# EAGLE library part TPIC6B595N (library ICs)
POWER LOGIC 8-BIT SHIFT REGISTER
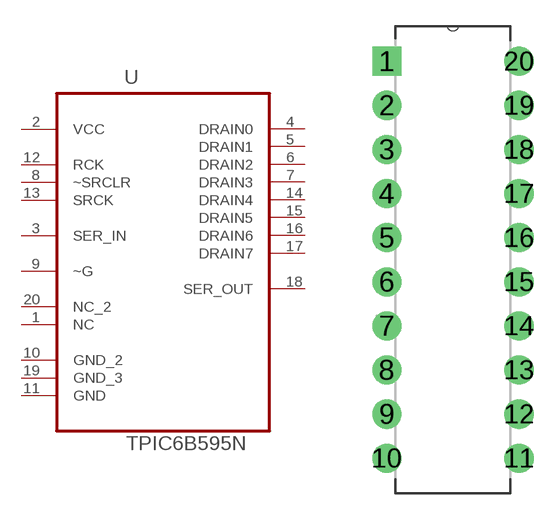
[diagram p25: symbol with the pads of DIP254P762X508-20; footprint DIP254P762X508-20]

Designator prefix U

## TPIC6B595N (AVAILABILITY: Unavailable; DESCRIPTION: Shift Shift Register 1 Element 8 Bit 20-PDIP; MF: Texas Instruments; MP: TPIC6B595N; PACKAGE: DIP-20 Texas Instruments; PRICE: None)  [DIP254P762X508-20]
1  NC  nc
2  VCC  pwr
3  SER_IN  in
4  DRAIN0  out
5  DRAIN1  out
6  DRAIN2  out
7  DRAIN3  out
8  ~SRCLR  in
9  ~G  in
10  GND_2  pas
11  GND  pas
12  RCK  in
13  SRCK  in
14  DRAIN4  out
15  DRAIN5  out
16  DRAIN6  out
17  DRAIN7  out
18  SER_OUT  out
19  GND_3  pas
20  NC_2  nc

## Footprint DIP254P762X508-20 (pad centres in mm)
drill 1.118 square: 1 -7.62,22.86
drill 1.118: 2 -7.62,20.32; 3 -7.62,17.78; 4 -7.62,15.24; 5 -7.62,12.7; 6 -7.62,10.16; 7 -7.62,7.62; 8 -7.62,5.08; 9 -7.62,2.54; 10 -7.62,0; 11 0,0; 12 0,2.54; 13 0,5.08; 14 0,7.62; 15 0,10.16; 16 0,12.7; 17 0,15.24; 18 0,17.78; 19 0,20.32; 20 0,22.86